# Altium integrated library FMP Mosfets.IntLib: 3 symbols
Pins are listed as number, name and electrical type; pins without a type are passive.

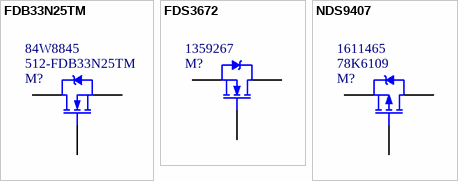
[diagram p0: symbols FDB33N25TM to NDS9407]

## FDB33N25TM
designator M?  Supplier Part Number 2: 512-FDB33N25TM  Supplier Part Number 3: 84W8845
MOSFET N-CH 250V 33A D2PAK; Manufacturer: Fairchild Semiconductor; Manufacturer Part Number: FDB33N25TM; FET Type: MOSFET N-Channel, Metal Oxide; FET Feature: Standard; Current - Continuous Drain (Id) @ 25°C: 33A (Tc); Rds On (Max) @ Id, Vgs: 94 mOhm @ 16.5A, 10V; Vgs(th) (Max) @ Id: 5V @ 250µA; Gate Charge (Qg) @ Vgs: 48nC @ 10V; Input Capacitance (Ciss) @ Vds: 2135pF @ 25V; Power - Max: 235W; Description: MOSFET 250V N-Ch MOSFET; Configuration: Single; Transistor Polarity: N-Channel; Channel Mode: Enhancement; Fall Time: 120 ns; Pd - Power Dissipation: 235 W; Rds On - Drain-Source Resistance: 94 mOhms; Rise Time: 230 ns; Typical Turn-Off Delay Time: 75 ns; Vgs - Gate-Source Breakdown Voltage: 30 V; Continuous Drain Current Id: 33; Drain Source Voltage Vds: 250; On Resistance Rds(on): 0.077; Rds(on) Test Voltage Vgs: 10; Threshold Voltage Vgs: 3; Supplier 1: Digi-Key; RoHS: RoHS Compliant; Category: Discrete Semiconductor Products; Stock 1: 2249; Pricing 1: 1=1.96, 10=1.77, 25=1.5856, 100=1.4256, 250=1.26588 (USD); Packaging: Cut Tape (CT); Drain to Source Voltage (Vdss): 250V; Mounting Type: Surface Mount; Package / Case: TO-263-3, D²Pak (2 Leads + Tab), TO-263AB; Supplier Device Package: D²PAK; ComponentLink1URL: http://www.fairchildsemi.com/datasheets/FD/FDB33N25.pdf; ComponentLink1Description: http://www.fairchildsemi.com/datasheets/FD/FDB33N25.pdf; Supplier Part Number 1: FDB33N25TMCT-ND; Supplier 2: Mouser; Stock 2: 7901; Pricing 2: 1=2.57, 10=2.08, 100=1.66, 500=1.46, 800=1.20, 2400=1.08, 9600=1.04 (AUD); Series: FDB33N25; Brand: Fairchild Semiconductor; Mounting Style: SMD/SMT; Id - Continuous Drain Current: 33 A; Maximum Operating Temperature: + 150 C; Minimum Operating Temperature: - 55 C; Standard Pack Qty: 800; Vds - Drain-Source Breakdown Voltage: 250 V; RoHS - Mouser: Y; Minimum Order Quantity: 1; Reeling: True; ComponentLink2URL: http://www.mouser.com/ds/2/149/FDB33N25-348148.pdf; ComponentLink2Description: http://www.mouser.com/ds/2/149/FDB33N25-348148.pdf; Supplier 3: Newark; Stock 3: 86; Pricing 3: 1=2,01, 10=1,62, 100=1,3, 1000=1,05 (USD); ComponentLink3URL: http://www.farnell.com/datasheets/1781196.pdf; ComponentLink3Description: http://www.farnell.com/datasheets/1781196.pdf
footprint TO263 (TO263 (D2PAK) Surface Mount)
pins: 1 G, 2 D, 3 S

## FDS3672
designator M?  Supplier Part Number 2: 1359267
MOSFET N-CH 100V 7.5A 8-SOIC; Manufacturer: Fairchild Semiconductor; Manufacturer Part Number: FDS3672; FET Type: MOSFET N-Channel, Metal Oxide; FET Feature: Logic Level Gate; Current - Continuous Drain (Id) @ 25°C: 7.5A (Ta); Rds On (Max) @ Id, Vgs: 23 mOhm @ 7.5A, 10V; Vgs(th) (Max) @ Id: 4V @ 250µA; Gate Charge (Qg) @ Vgs: 37nC @ 10V; Input Capacitance (Ciss) @ Vds: 2015pF @ 25V; Power - Max: 2.5W; Description: FAIRCHILD SEMICONDUCTOR - FDS3672..... - N CHANNEL MOSFET, 100V, 7.5A, SOIC; Transistor Polarity: N Channel; Continuous Drain Current Id: 7.5; Drain Source Voltage Vds: 100; On Resistance Rds(on): 23; Rds(on) Test Voltage Vgs: 10; Threshold Voltage Vgs: 4; No. of Pins: 8; Supplier 1: Digi-Key; RoHS: RoHS Compliant; Category: Discrete Semiconductor Products; Stock 1: 9876; Pricing 1: 1=1.58, 10=1.4, 25=1.264, 100=1.106, 250=0.96996, 500=0.86024, 1000=0.6803 (USD); Packaging: Cut Tape (CT); Drain to Source Voltage (Vdss): 100V; Mounting Type: Surface Mount; Package / Case: 8-SOIC (0.154", 3.90mm Width); Supplier Device Package: 8-SOIC N; ComponentLink1URL: http://www.fairchildsemi.com/datasheets/FD/FDS3672.pdf; ComponentLink1Description: http://www.fairchildsemi.com/datasheets/FD/FDS3672.pdf; Supplier Part Number 1: FDS3672CT-ND; Supplier 2: Farnell; Stock 2: 1493; Pricing 2: 1=1,72, 10=1,327, 100=1,007, 1000=0,801 (GBP); ComponentLink2URL: http://www.farnell.com/datasheets/1727596.pdf; ComponentLink2Description: http://www.farnell.com/datasheets/1727596.pdf
footprint SO-8 (SO-8 SOIC)
pins: 1 S, 2 S hidden to 1, 3 S hidden to 1, 4 G, 5 D, 6 D hidden to 5, 7 D hidden to 5, 8 D hidden to 5

## NDS9407
designator M?  Supplier Part Number 2: 78K6109  Supplier Part Number 3: 1611465
MOSFET P-CH 60V 3A 8-SOIC; Manufacturer: Fairchild Semiconductor; Manufacturer Part Number: NDS9407; FET Type: MOSFET P-Channel, Metal Oxide; FET Feature: Logic Level Gate; Current - Continuous Drain (Id) @ 25°C: 3A (Ta); Rds On (Max) @ Id, Vgs: 150 mOhm @ 3A, 10V; Vgs(th) (Max) @ Id: 3V @ 250µA; Gate Charge (Qg) @ Vgs: 22nC @ 10V; Input Capacitance (Ciss) @ Vds: 732pF @ 30V; Power - Max: 1W; Description: FAIRCHILD SEMICONDUCTOR - NDS9407 - P CHANNEL MOSFET, -60V, -3A, SOIC; Transistor Polarity: P Channel; Continuous Drain Current Id: -3; Drain Source Voltage Vds: -60; On Resistance Rds(on): 150; Rds(on) Test Voltage Vgs: -10; Threshold Voltage Vgs: -1.6; Power Dissipation Pd: 2.5; Transistor Case Style: SOIC; No. of Pins: 8; SVHC: No SVHC (16-Jun-2014); Voltage Vds Typ: 60; Supplier 1: Digi-Key; RoHS: RoHS Compliant; Category: Discrete Semiconductor Products; Stock 1: 13693; Pricing 1: 1=1.02, 10=0.893, 25=0.7896, 100=0.6881, 250=0.59896, 500=0.50986, 1000=0.40838 (USD); Packaging: Cut Tape (CT); Drain to Source Voltage (Vdss): 60V; Mounting Type: Surface Mount; Package / Case: 8-SOIC (0.154", 3.90mm Width); Supplier Device Package: 8-SOIC N; ComponentLink1URL: http://www.fairchildsemi.com/datasheets/ND/NDS9407.pdf; ComponentLink1Description: http://www.fairchildsemi.com/datasheets/ND/NDS9407.pdf; Supplier Part Number 1: NDS9407CT-ND; Supplier 2: Newark; Stock 2: 3170; Pricing 2: 1=1,03, 10=0,799, 100=0,541, 1000=0,425 (USD); ComponentLink2URL: http://www.farnell.com/datasheets/193782.pdf; ComponentLink2Description: http://www.farnell.com/datasheets/193782.pdf; Supplier 3: Farnell; Stock 3: 2197; Pricing 3: 1=0,645, 25=0,556, 100=0,349 (GBP); Operating Temperature Max: 175; MSL: MSL 1 - Unlimited; Current Id Max: -3; Operating Temperature Min: -55; Operating Temperature Range: -55°C to +175; Termination Type: SMD; Voltage Vgs Max: -1.6; Voltage Vgs Rds on Measurement: -10
footprint SO-8 (SO-8 SOIC)
pins: 1 S, 2 S hidden to 1, 3 S hidden to 1, 4 G, 5 D, 6 D hidden to 5, 7 D hidden to 5, 8 D hidden to 5